# EAGLE library part 6504 (library commodore)
* 8K Addressable Bytes of Memory (A0-A12) * On Chip Clock * IRQ, NO NMI * 8bit Bi-Dir Data Bus Information is taken from "Commodore Semiconductor Group - NMOS 6502 MICROPROCESSORS NOVEMBER 1985".
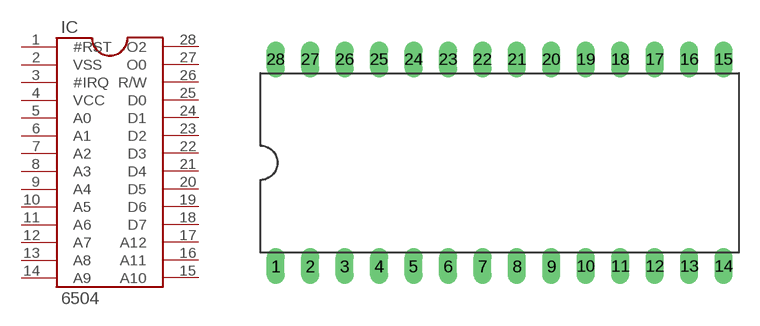
[diagram p3: symbol with the pads of DIL28-6; footprint DIL28-6]

Designator prefix IC

## 6504  [DIL28-6]
1  #RST
2  VSS
3  #IRQ
4  VCC
5  A0
6  A1
7  A2
8  A3
9  A4
10  A5
11  A6
12  A7
13  A8
14  A9
15  A10
16  A11
17  A12
18  D7
19  D6
20  D5
21  D4
22  D3
23  D2
24  D1
25  D0
26  R/W
27  O0
28  O2

## Footprint DIL28-6 (pad centres in mm)
Dual In Line Package 0.6 inch
drill 0.813 long: 1 -16.51,-7.62; 2 -13.97,-7.62; 3 -11.43,-7.62; 4 -8.89,-7.62; 5 -6.35,-7.62; 6 -3.81,-7.62; 7 -1.27,-7.62; 8 1.27,-7.62; 9 3.81,-7.62; 10 6.35,-7.62; 11 8.89,-7.62; 12 11.43,-7.62; 13 13.97,-7.62; 14 16.51,-7.62; 15 16.51,7.62; 16 13.97,7.62; 17 11.43,7.62; 18 8.89,7.62; 19 6.35,7.62; 20 3.81,7.62; 21 1.27,7.62; 22 -1.27,7.62; 23 -3.81,7.62; 24 -6.35,7.62; 25 -8.89,7.62; 26 -11.43,7.62; 27 -13.97,7.62; 28 -16.51,7.62